# Altium schematic symbol library Master JULY2019.SchLib: 264 symbols (part 2 of 4)
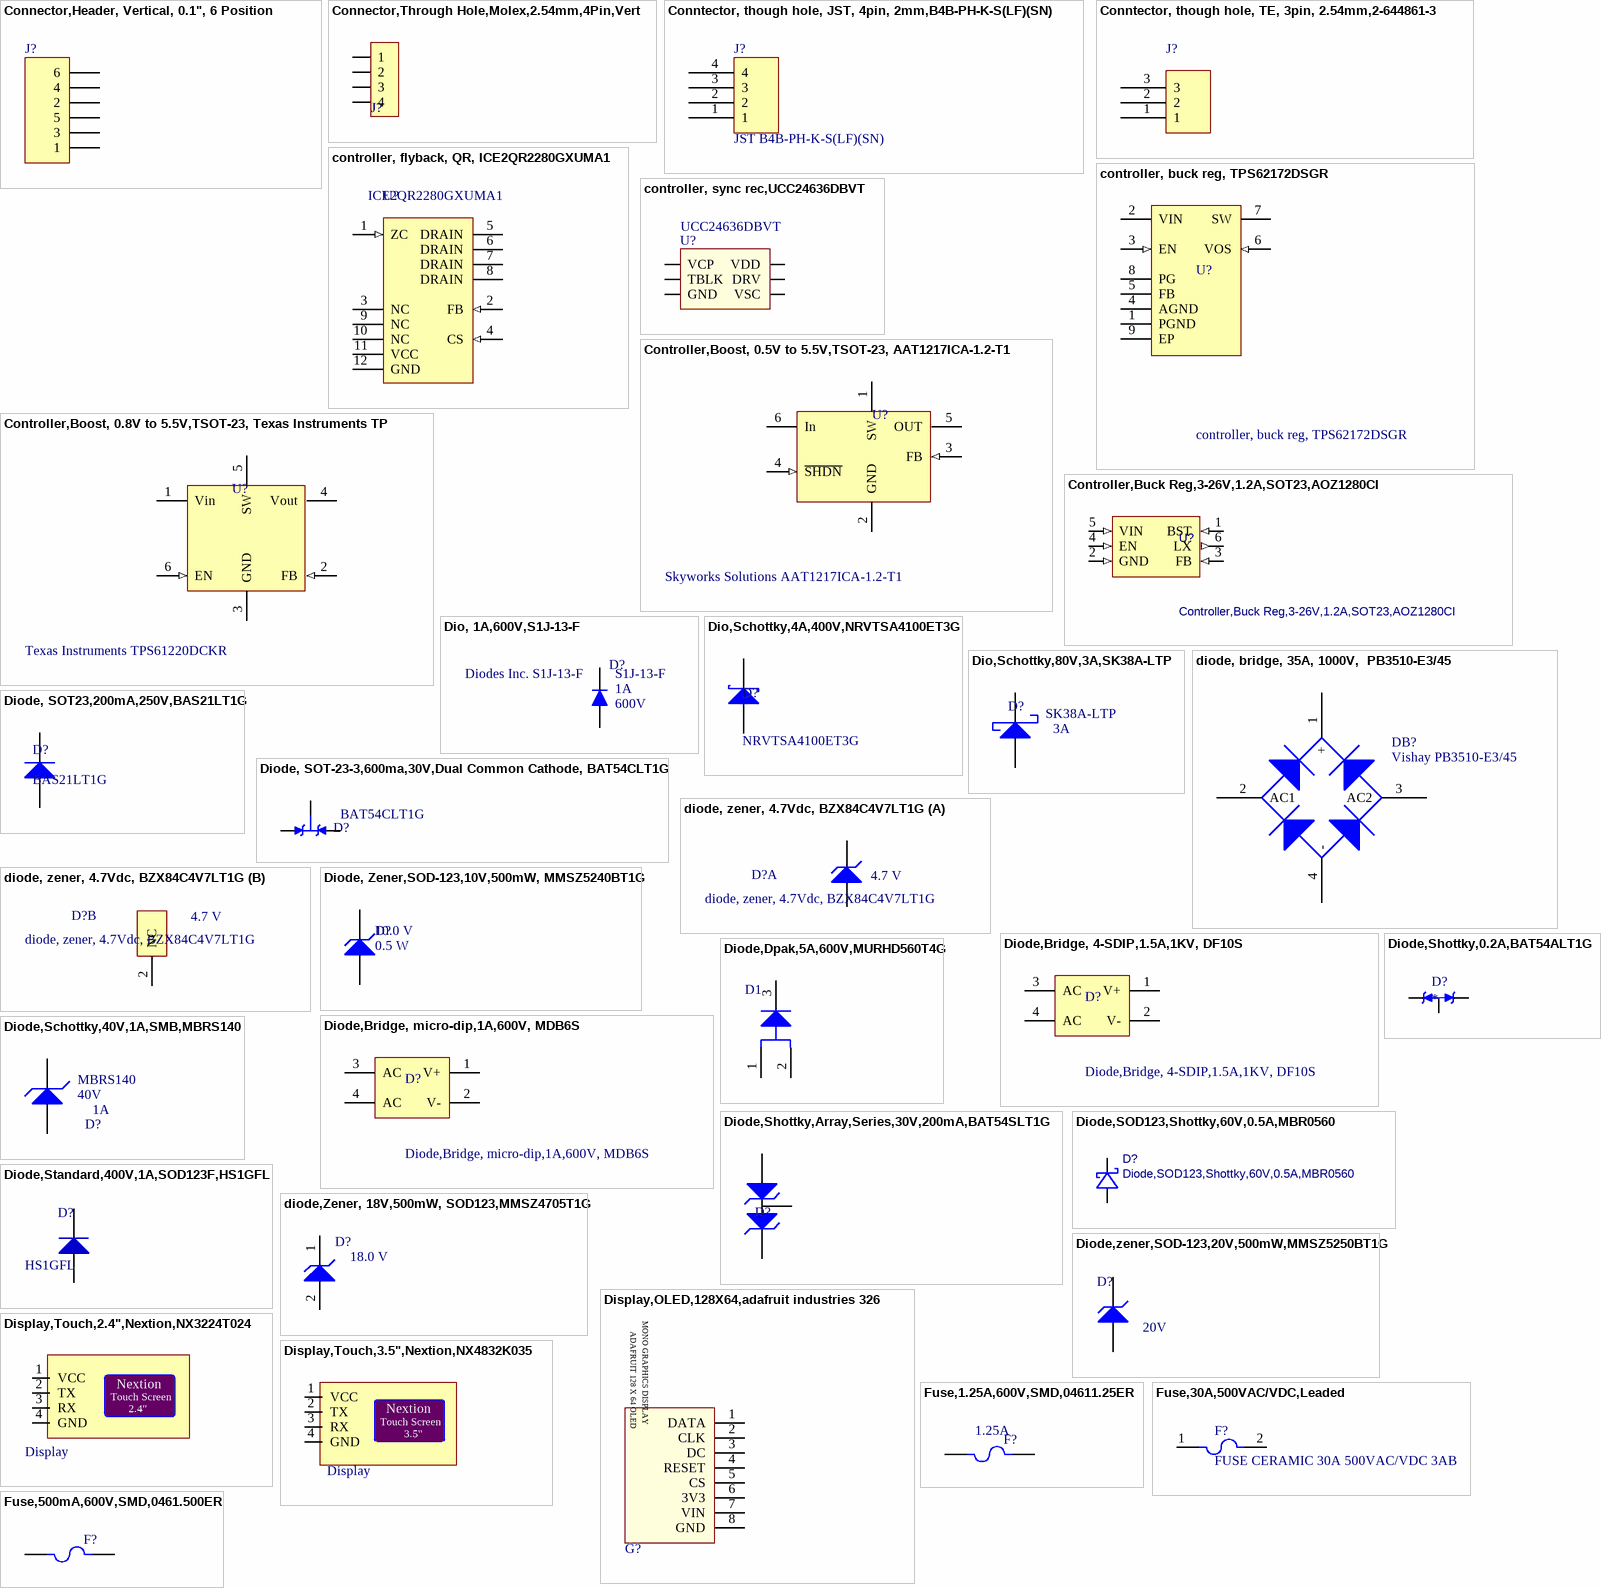
[diagram p10: symbols Connector,Header, Vertical, 0.1", 6 Position to Fuse,500mA,600V,SMD,0461.500ER]

## Dio,Schottky,4A,400V,NRVTSA4100ET3G
designator D?, comment NRVTSA4100ET3G
Trench Schottky Rectifier, Very Low Leakage, 100V, 4A; Manufacturer: ON Semiconductor; Voltage - Forward (Vf) (Max) @ If: 680mV @ 4A; Speed: Fast Recovery =< 500ns, > 200mA (Io); Current - Reverse Leakage @ Vr: 9µA @ 100V; Capacitance @ Vr, F: 55pF @ 4V, 1MHz; mfg P\N: NRVTSA4100ET3G; Diode Type: Schottky; Voltage - DC Reverse (Vr) (Max): 100V; Current - Average Rectified (Io): 4A; Mounting Type: Surface Mount; Package / Case: DO-214AC, SMA; Supplier Device Package: SMA; Operating Temperature - Junction: -55°C ~ 175°C
footprint DO-214AC, SMA (Molded, 2-Leads, Body 4.32x2.6mm)
pins: 1 K, 2 A

## Dio,Schottky,80V,3A,SK38A-LTP
designator D?, comment Current - Average Rectified (Io): 3A  (hidden comment: SK38A-LTP)
DIODE SCHOTTKY 80V 3A DO214AC; Manufacturer: Micro Commercial Co; Detailed Description: Diode Schottky 80V 3A Surface Mount DO-214AC (SMA); Diode: Type Schottky; Voltage - Forward (Vf) (Max) @ If: 850mV @ 3A; Speed: Fast Recovery =< 500ns, > 200mA (Io); Current - Reverse Leakage @ Vr: 500µA @ 80V; Part Status: Active; Voltage - DC Reverse (Vr) (Max): 80V; Mounting Type: Surface Mount; Package / Case: DO-214AC, SMA; Supplier Device Package: DO-214AC (SMA); Operating Temperature - Junction: -50°C ~ 125°; Base Part Number: SK38; mfg P/N: SK38A-LTP
footprint DO-214AC, SMA (Molded, 2-Leads, Body 4.32x2.6mm)
pins: 1 A, 2 K

## diode, bridge, 35A, 1000V,  PB3510-E3/45
designator DB?, comment Vishay PB3510-E3/45
RECTIFIER BRIDGE 1000V 35A PB; Lead-Free Status: Lead Free; voltage: 1000; Manufacturer Part Number: PB3510-E3/45; Packaging: Tube; RoHS: Compliant; Mounting Style: Through Hole; Number of Pins: 4; Supplier 1: Newark; Supplier 2: Farnell; Supplier 3: Digi-Key; current: 35A
footprint 4-ESIP, PB
footprint 4-ESIP with Heat Sink
pins: 1 +, 2 AC1, 3 AC2, 4 -

## Diode, SOT23,200mA,250V,BAS21LT1G
designator D?, comment BAS21LT1G
Diode Standard 250V 200mA (DC) Surface Mount SOT-23-3 (TO-236); Manufacturer: ON Semiconductor; Detailed Description: Diode Standard 250V 200mA Surface Mount SOT-23-3 (TO-236); Voltage - Forward (Vf) (Max) @ If: 1.25V @ 200mA; Speed: Small Signal =< 200mA (Io), Any Speed; Reverse Recovery Time (trr): 50ns; Current - Reverse Leakage @ Vr: 100nA @ 200V; Capacitance @ Vr, F: 5pF @ 0V, 1MHz; mfg P/N: BAS21LT1G; Diode Type: Standard; Voltage - DC Reverse (Vr) (Max): 250V; Current - Average Rectified (Io): 200mA (DC); Mounting Type: Surface Mount; Package / Case: TO-236-3, SC-59, SOT-23-3; Supplier Device Package: SOT-23-3 (TO-236); Operating Temperature - Junction: -55°C ~ 150°C; Base Part Number: BAS21L
footprint SOT23-3
pins: 1 A, 3 K

## Diode, SOT-23-3,600ma,30V,Dual Common Cathode, BAT54CLT1G
designator D?  Manufacturer Part Number: BAT54CLT1G  (hidden comment: Diode, SOT-23-3,600ma,30V,Dual Common Cathode, BAT54CLT1G)
BAT54CLT1G Series 30V 600 mA Dual Common Cathode Schottky Barrier Diode-SOT-23-3; Lead-Free Status: Lead Free; Current Rating: 200 mA; Voltage Rating (DC): 30.0 V; Capacitance: 10.0 pF; Lifecycle Status: Active; RoHS: Compliant; Halogen Free Status: Halogen Free; Number of Pins: 3; Mounting Style: Surface Mount; Case/Package: SOT-23; Packaging: Tape & Reel (TR), Cut Tape (CT); REACH SVHC Compliance: No SVHC
footprint SOT23-3
pins: 1 A1, 2 A2, 3 C

## diode, zener, 4.7Vdc, BZX84C4V7LT1G
designator D?  Voltage Rating (DC): 4.7 V
Zener Voltage Regulator, 225 mW, 3-Pin SOT-23, Pb-Free, Tape and Reel; Breakdown Voltage: 5.0 V; Lead-Free Status: Lead Free; Material: Plastic; Power Rating: 0.225 W; Case/Package: SOT-23; Halogen Free Status: Halogen Free; Lifecycle Status: Active; Mounting Style: Surface Mount; Number of Pins: 3; REACH SVHC Compliance: No SVHC; RoHS: Compliant
footprint SOT23-3
part A pins: 1 A, 3 K
part B pins: 2 NC

## Diode, Zener,SOD-123,10V,500mW, MMSZ5240BT1G
designator D?, comment Breakdown Voltage: 10.0 V  Power Rating: 0.5 W  (hidden comment: MMSZ5240BT1G)
Zener Voltage Regulator, 500 mW, 2-Pin SOD-123, Pb-Free, Tape and Reel; Lead-Free Status: Lead Free; Material: Plastic; Case/Package: SOD-123; Lifecycle Status: Active; Mounting Style: Surface Mount; Number of Pins: 2; REACH SVHC Compliance: No SVHC; RoHS: Compliant; Voltage Rating (DC): 10.0 V; Supplier 1: Digi-Key; Supplier Part Number 1: MMSZ5240BT1GOSCT-ND; Supplier 2: LCSC; Supplier Part Number 2: C82084
footprint SOD123 (SOD, 2-Leads, Body 2.69x1.6mm)
pins: 1 K, 2 A

## Diode,Bridge, 4-SDIP,1.5A,1KV, DF10S
designator D?
Bridge Rectifier Single Phase Standard 1kV Surface Mount 4-SDIP; Detailed Description: Detailed Description Bridge Rectifier Single Phase Standard 1kV Surface Mount 4-SDIP; Voltage - Forward (Vf) (Max) @ If: 1.1V @ 1.5A; Current - Reverse Leakage @ Vr: 5µA @ 1000V; mfg P\N: DF10S; Diode Type: Single Phase; Technology: Standard; Voltage - Peak Reverse (Max): 1kV; Current - Average Rectified (Io): 1.5A; Operating Temperature: -55°C ~ 150°C (TJ); Mounting Type: Surface Mount; Package / Case: 4-SMD, Gull Wing; Supplier Device Package: 4-SDIP
footprint 4SDIP (4-SMD, Gull Wing)
pins: 1 V+ (power), 2 V- (power), 3 AC (power), 4 AC (power)

## Diode,Bridge, micro-dip,1A,600V, MDB6S
designator D?
600 V, 1 A, Single-Phase Bridge Rectifier, -55 to 150 degC, 4-Pin 5 x 4.4 x 1.6 mm MicroDIP, RoHS, Tape and Reel; Lead-Free Status: Lead Free; Lifecycle Status: Active; Mounting Style: Surface Mount; RoHS: Compliant
footprint Micro-DIP, 4-Leads (Micro-DIP, 4-Leads, Body 5x4.4mm, Height 1.6mm)
pins: 1 V+ (power), 2 V- (power), 3 AC (power), 4 AC (power)

## Diode,Dpak,5A,600V,MURHD560T4G
designator D1  (value not drawn)
Power Rectifier, 3-Pin DPAK, Pb-Free, Tape and Reel; Lead-Free Status: Lead Free; voltage: 600Vdc; Speed: Fast Recovery =< 500ns, > 200mA (Io); Reverse Recovery Time (trr): 30nS; Case/Package: DPAK; Halogen Free Status: Halogen Free; Lifecycle Status: Active; RoHS: Compliant; Supplier 1: Newark; Supplier 2: Digi-Key; Supplier 3: Digi-Key; Supplier 4: Digi-Key; current: 5A
footprint DPAK,3-Leads (DPAK, 3-Leads, Body 6.54x6.095mm, Pitch 2.29mm)
pins: 1 A, 2 A, 3 K

## Diode,Schottky,40V,1A,SMB,MBRS140
designator D?, comment Voltage - DC Reverse (Vr) (Max): 40V  Current - Average Rectified (Io): 1A  (hidden comment: MBRS140)
DIODE SCHOTTKY 40V 1A SMB; Manufacturer: ON Semiconductor; Detailed Description: Diode Schottky 40V 1A Surface Mount SMB (DO-214AA); Categories: Discrete Semiconductor Products   Diodes - Rectifiers - Single; Voltage - Forward (Vf) (Max) @ If: 600mV @ 1A; Speed: Fast Recovery =< 500ns, > 200mA (Io); Current - Reverse Leakage @ Vr: 1mA @ 40V; Supplier 1: Digi-Key; Supplier Part Number 1: MBRS140FSTR-ND; Part Status: Active; Diode Type: Schottky; Mounting Type: Surface Mount; Package / Case: DO-214AA, SMB; Supplier Device Package: SMB (DO-214AA); Operating Temperature - Junction: -65°C ~ 125°C; Base Part Number: MBRS140; Supplier 2: LCSC; Supplier Part Number 2: C133091; mfg P/N: MBRS140
footprint DO214AA
pins: 1, 2

## Diode,Shottky,0.2A,BAT54ALT1G
designator D?
DIODE ARRAY SCHOTTKY 30V SOT23-3; Manufacturer 1: ON Semiconductor; Manufacturer Part Number 1: BAT54ALT1G; Element Configuration: Common Anode; Max Forward Surge Current (Ifsm): 600mA; Forward Voltage: 800mV; Reverse Recovery Time: 5ns; Forward Current: 200mA; Current Rating: 10A; Peak Reverse Current: 2uA; Capacitance: 10pF; Power Dissipation: 225mW; Supplier 1: Digi-Key; Stock 1: 238457; Pricing 1: 1=0.16000, 10=0.14500, 100=0.07880, 500=0.04848, 1000=0.03306 (USD); RoHS: Yes; Case/Package: SOT-23-3; Number of Pins: 3; Contact Plating: Tin; Min Operating Temperature: -55°C; Max Operating Temperature: 150°C; Packaging: Tape and Reel; Package Quantity: 3000; Max Repetitive Reverse Voltage (Vrrm): 30V; Average Rectified Current: 200mA; Max Reverse Voltage (DC): 30V; Peak Non-Repetitive Surge Current: 600mA; Voltage Rating (DC): 30V; Max Surge Current: 600mA; Recovery Time: 5ns; Max Reverse Leakage Current: 2uA; Termination: SMD/SMT; Max Power Dissipation: 225mW; Length: 0.119inch; Height: 0.04inch; Width: 0.055inch; Radiation Hardening: No; Lead Free: Lead Free; REACH SVHC: No SVHC; Halogen Free: Halogen Free; ComponentLink1URL: https://datasheet.ciiva.com/4715/bat54alt1-d-104508-4715041.pdf?src-supplier=Mouser; ComponentLink1Description: https://datasheet.ciiva.com/4715/bat54alt1-d-104508-4715041.pdf?src-supplier=Mouser; ComponentLink2URL: https://datasheet.ciiva.com/1180/bat54alt1-d-1180242.pdf?src-supplier=Element14; ComponentLink2Description: https://datasheet.ciiva.com/1180/bat54alt1-d-1180242.pdf?src-supplier=Element14; ComponentLink3URL: https://datasheet.ciiva.com/1180/1911586-1180243.pdf?src-supplier=Element14; ComponentLink3Description: https://datasheet.ciiva.com/1180/1911586-1180243.pdf?src-supplier=Element14; ComponentLink4URL: https://datasheet.ciiva.com/14560/70100362-14560727.pdf?src-supplier=Allied+Electronics; ComponentLink4Description: https://datasheet.ciiva.com/14560/70100362-14560727.pdf?src-supplier=Allied+Electronics; ComponentLink5URL: https://datasheet.ciiva.com/8299/bat54alt1-d-8299643.pdf?src-supplier=Avnet; ComponentLink5Description: https://datasheet.ciiva.com/8299/bat54alt1-d-8299643.pdf?src-supplier=Avnet; ComponentLink6URL: https://datasheet.ciiva.com/905/bat54alt1-d-905836.pdf?src-supplier=Digi-Key; ComponentLink6Description: https://datasheet.ciiva.com/905/bat54alt1-d-905836.pdf?src-supplier=Digi-Key; ComponentLink7URL: https://datasheet.ciiva.com/905/bat54alt1-d-905837.pdf?src-supplier=Digi-Key; ComponentLink7Description: https://datasheet.ciiva.com/905/bat54alt1-d-905837.pdf?src-supplier=Digi-Key; ComponentLink8URL: https://datasheet.ciiva.com/905/bat54alt1-d-905838.pdf?src-supplier=Digi-Key; ComponentLink8Description: https://datasheet.ciiva.com/905/bat54alt1-d-905838.pdf?src-supplier=Digi-Key; ComponentLink9URL: https://datasheet.ciiva.com/16387/bat54alt1-d-16387375.pdf?src-supplier=Future+Electronics; ComponentLink9Description: https://datasheet.ciiva.com/16387/bat54alt1-d-16387375.pdf?src-supplier=Future+Electronics; ComponentLink10URL: https://datasheet.ciiva.com/25950/bat54alt1-d-25950143.pdf?src-supplier=Avnet+Europe; ComponentLink10Description: https://datasheet.ciiva.com/25950/bat54alt1-d-25950143.pdf?src-supplier=Avnet+Europe; Supplier Part Number 1: BAT54ALT1GOSCT-ND
footprint SOT23-3
pins: 1 C1, 2 C2, 3 A

## Diode,Shottky,Array,Series,30V,200mA,BAT54SLT1G
designator D?, comment Diode  (value not drawn)
Diode Array 1 Pair Series Connection Schottky 30V 200mA (DC) Surface Mount TO-236-3, SC-59, SOT-23-3; Manufacturer: ON Semiconductor; mfg P/N: BAT54SLT1G; Voltage - Forward (Vf) (Max) @ If: 800mV @ 100mA; Speed: Small Signal =< 200mA (Io), Any Speed; Reverse Recovery Time (trr): 5ns; Current - Reverse Leakage @ Vr: 2µA @ 25V; Detailed Description: Diode Array 1 Pair Series Connection Schottky 30V 200mA (DC) Surface Mount TO-236-3, SC-59, SOT-23-3; Diode Type: Schottky; Diode Configuration: 1 Pair Series Connection; Voltage - DC Reverse (Vr) (Max): 30V; Current - Average Rectified (Io) (per Diode): 200mA (DC); Operating Temperature - Junction: 125°C (Max); Mounting Type: Surface Mount; Package / Case: TO-236-3, SC-59, SOT-23-3; Supplier Device Package: SOT-23-3 (TO-236); Base Part Number: BAT54SL
footprint SOT23-3
pins: 1 A, 2 K, 3 AK

## Diode,SOD123,Shottky,60V,0.5A,MBR0560
designator D?
Dio,Sig,Schtky,0.5A,60V,SOD123; Manufacturer: MCC; mfg P/N: MBR0560-TP; Details: 700mV @ 500mA, 200µA @ 60V,30pF @ 4V, 1MHz; Not Stuffed: N/S; Fast Supplier: Digi-Key; Current: 0.5A; Package: SOD123; Voltage: 60V
footprint SOD123 (SOD, 2-Leads, Body 2.69x1.6mm)
pins: 1 C, 2 A

## Diode,Standard,400V,1A,SOD123F,HS1GFL
designator D?, comment HS1GFL
50NS 1A 400V HIGH EFFICIENT RECO; Lead-Free Status: Lead Free; Detailed Description: Diode Standard 400V 1A (DC) Surface Mount SOD-123FL; Current - Reverse Leakage @ Vr: 5µA @ 400V; Voltage - Forward (Vf) (Max) @ If: 1.3V @ 1A; Case/Package: SOD-123FL; Lifecycle Status: Active; Mounting Type: Surface Mount; Number of Pins: 2; REACH SVHC Compliance: No SVHC; RoHS: Compliant; mfg P/N: HS1GFL; Operating Temperature: -55°C ~ 150°C; Package / Case: SOD-123FL; Voltage - DC Reverse (Vr) (Max): 400V; Current - Average Rectified (Io): 1A
footprint SOD123FL (SOD, 2-Leads, Body 2.69x1.6mm)
pins: 1 K, 2 A

## diode,Zener, 18V,500mW, SOD123,MMSZ4705T1G
designator D?, comment Voltage Rating (DC): 18.0 V  (hidden comment: MMSZ4705T1G)
Zener Diode 18V 500mW ±5% Surface Mount SOD-123; Manufacturer: ON Semiconductor; Lead-Free Status: Lead Free; Material: Plastic; Power Rating: 0.5 W; Current - Reverse Leakage @ Vr: 50nA @ 13.6V; Voltage - Forward (Vf) (Max) @ If: 900mV @ 10mA; Case/Package: SOD-123; Lifecycle Status: Active; Mounting Style: Surface Mount; Number of Pins: 2; REACH SVHC Compliance: No SVHC; RoHS: Compliant; Operating Temperature: -55°C ~ 150°C; mfg P/N: MMSZ4705T1G
footprint SOD123 (SOD, 2-Leads, Body 2.69x1.6mm)
pins: 1 K, 2 A

## Diode,zener,SOD-123,20V,500mW,MMSZ5250BT1G
designator D?, comment Voltage - Zener (Nom) (Vz): 20V  (hidden comment: MMSZ5250BT1G)
DIODE ZENER 20V 500MW SOD123; Lead-Free Status: Lead Free; Material: Plastic; Detailed Description: Zener Diode 20V 500mW ±5% Surface Mount SOD-123; Tolerance: ±5%; Impedance (Max) (Zzt): 25 Ohms; Current - Reverse Leakage @ Vr: 100nA @ 15V; Voltage - Forward (Vf) (Max) @ If: 900mV @ 10mA; Power Rating: 0.5 W; Case/Package: SOD-123; Lifecycle Status: Active; Mounting Style: Surface Mount; Number of Pins: 2; REACH SVHC Compliance: No SVHC; RoHS: Compliant; mfg P/N: MMSZ5250BT1G; Operating Temperature: -55°C ~ 150°C; Package / Case: SOD-123; Mounting Type: Surface Mount; Supplier 1: LCSC; Supplier Part Number 1: C94386; Supplier 2: Digi-Key; Supplier Part Number 2: MMSZ5250BT1GOSCT-ND
footprint SOD123 (SOD, 2-Leads, Body 2.69x1.6mm)
pins: 1 K, 2 A

## Display,OLED,128X64,adafruit industries 326
designator G?, comment 326  (value not drawn)
128 x 64 OLED Mono Graphic Display; mfg P/N: adafruit industries 326; Display Type: OLED - Passive Matrix; Diagonal Screen Size: 0.96" (24.38mm); Viewing Area: 23.74mm W x 12.86mm H; Backlight: Without Backlight; Dot Pixels: 128 x 64; Interface: I²C, SPI; Graphics Color: White; Background Color: Black; Dot Size: 0.15mm W x 0.15mm H; Dot Pitch: 0.17mm W x 0.17mm H; RoHS: Compliant
footprint Display, 128 x 64 OLED Mono Graphic Display
pins: 1 DATA, 2 CLK, 3 DC, 4 RESET, 5 CS, 6 3V3, 7 VIN, 8 GND
text: MONO GRAPHICS DISPLAY; ADAFRUIT 128 X 64 OLED

## Display,Touch,2.4",Nextion,NX3224T024
designator Display, comment NX3224T024  (value not drawn)
Nextion NX3224T024 - Generic 2.4" TFT Intelligent LCD Touch Display; p/n: NX4832K035; Touch type:: Resistive; Backlight:: LED; Backlight lifetime (Average):: >30,000 Hours; Recommended power supply:: 5V 500mA DC; Visual Area:: 73.44mm(L)×48.96mm(W); Display Resolution: 320 * 240; Display Interface: Serial; Board Size: 74.4*42.9mm; Weight: 62 g
footprint Display,2.4",Nextion
pins: 1 VCC, 2 TX, 3 RX, 4 GND
text: Nextion; Touch Screen; 2.4"

## Display,Touch,3.5",Nextion,NX4832K035
designator Display, comment NX4832K035  (value not drawn)
Nextion Enhanced NX4832K035 3.5 Inch HMI Intelligent Smart USART UART Serial Touch TFT LCD Module Display Panel For Raspberry Pi Arduino Kits; Touch type:: Resistive; Backlight:: LED; Backlight lifetime (Average):: >30,000 Hours; Net Weight:: 48.2 g; Recommended power supply:: 5V 500mA DC; Visual Area:: 73.44mm(L)×48.96mm(W); Display Resolution: 480 * 320; Board Size: 100.5mm*54.94mm; p/n: NX4832K035; Display Interface: Serial; Weight: 85 g
footprint Display,3.5",Nextion
pins: 1 VCC, 2 TX, 3 RX, 4 GND
text: Nextion; Touch Screen; 3.5"

## Fuse,1.25A,600V,SMD,04611.25ER
designator F?, comment Current Rating: 1.25A  (hidden comment: 04611.25ER)
FUSE BRD MNT 1.25A 600VAC/80VDC; Voltage Rating (DC): 80V; Voltage Rating (AC): 600Vac; Lead-Free Status: Lead Free; Response Time: Slow; Approvals: CSA, UR; Breaking Capacity @ Rated Voltage: 60A AC, 100A DC; Melting: I²t 16.5; DC Cold Resistance: 0.11 Ohms; Manufacturer Part Number: 04611.25ER; Mounting Style: Surface Mount; Applications: Telecom; Operating Temperature: -55°C ~ 125°C; Size / Dimension: 0.398" L x 0.123" W x 0.123" H (10.10mm x 3.12mm x 3.12mm)
footprint Fuse,600VAC,1.25A,04611.25ER (0.398" L x 0.123" W x 0.123" H (10.10mm x 3.12mm x 3.12mm))
pins: 1, 2

## Fuse,30A,500VAC/VDC,Leaded
designator F?, comment FUSE CERAMIC 30A 500VAC/VDC 3AB
Manufacturer: Littelfuse Inc.; mfg P/N: 0505030.MXEP; Fuse Type: Cartridge, Ceramic; Voltage Rating - AC: 500V; Response Time: Fast; Breaking Capacity @ Rated Voltage: 30kA AC, 20kA DC; Melting I²t: 280; Approvals: CE, cULus; DC Cold Resistance: 0.0038 Ohms; Current Rating: 30A; Voltage Rating - DC: 500V; Package / Case: 3AB, 3AG, 1/4" x 1-1/4" (Axial); Mounting Type: Through Hole; Operating Temperature: -55°C ~ 125°C; Size / Dimension: 0.275" Dia x 1.288" L (6.99mm x 32.72mm)
footprint Fuse,TH,Vertical,0505030.MXEP (0.275" Dia x 1.288" L (6.99mm x 32.72mm))
pins: 1, 2

## Fuse,500mA,600V,SMD,0461.500ER
designator F?, comment Littelfuse 0461.500ER  (value not drawn)
Fuse Chip Slow Blow Acting 0.5A 600V SMD Solder Pad 10.1 X 3.12 X 3.12mm Ceramic T/R; Voltage Rating (DC): 250.0 V; Voltage Rating (AC): 600Vac; Lead-Free Status: Lead Free; RoHS: Compliant; Manufacturer Part Number: 0461.500ER; Size-Width: 0.00312 m; Mounting Style: Surface Mount; Packaging: Cut Tape (CT); Size-Height: 0.00312 m; REACH SVHC Compliance: No SVHC; Size-Length: 0.0100838 m
footprint Fuse chip, SMD,9.4mm (SMD Solder Pad 10.1 X 3.12 X 3.12mm)
pins: 1, 2

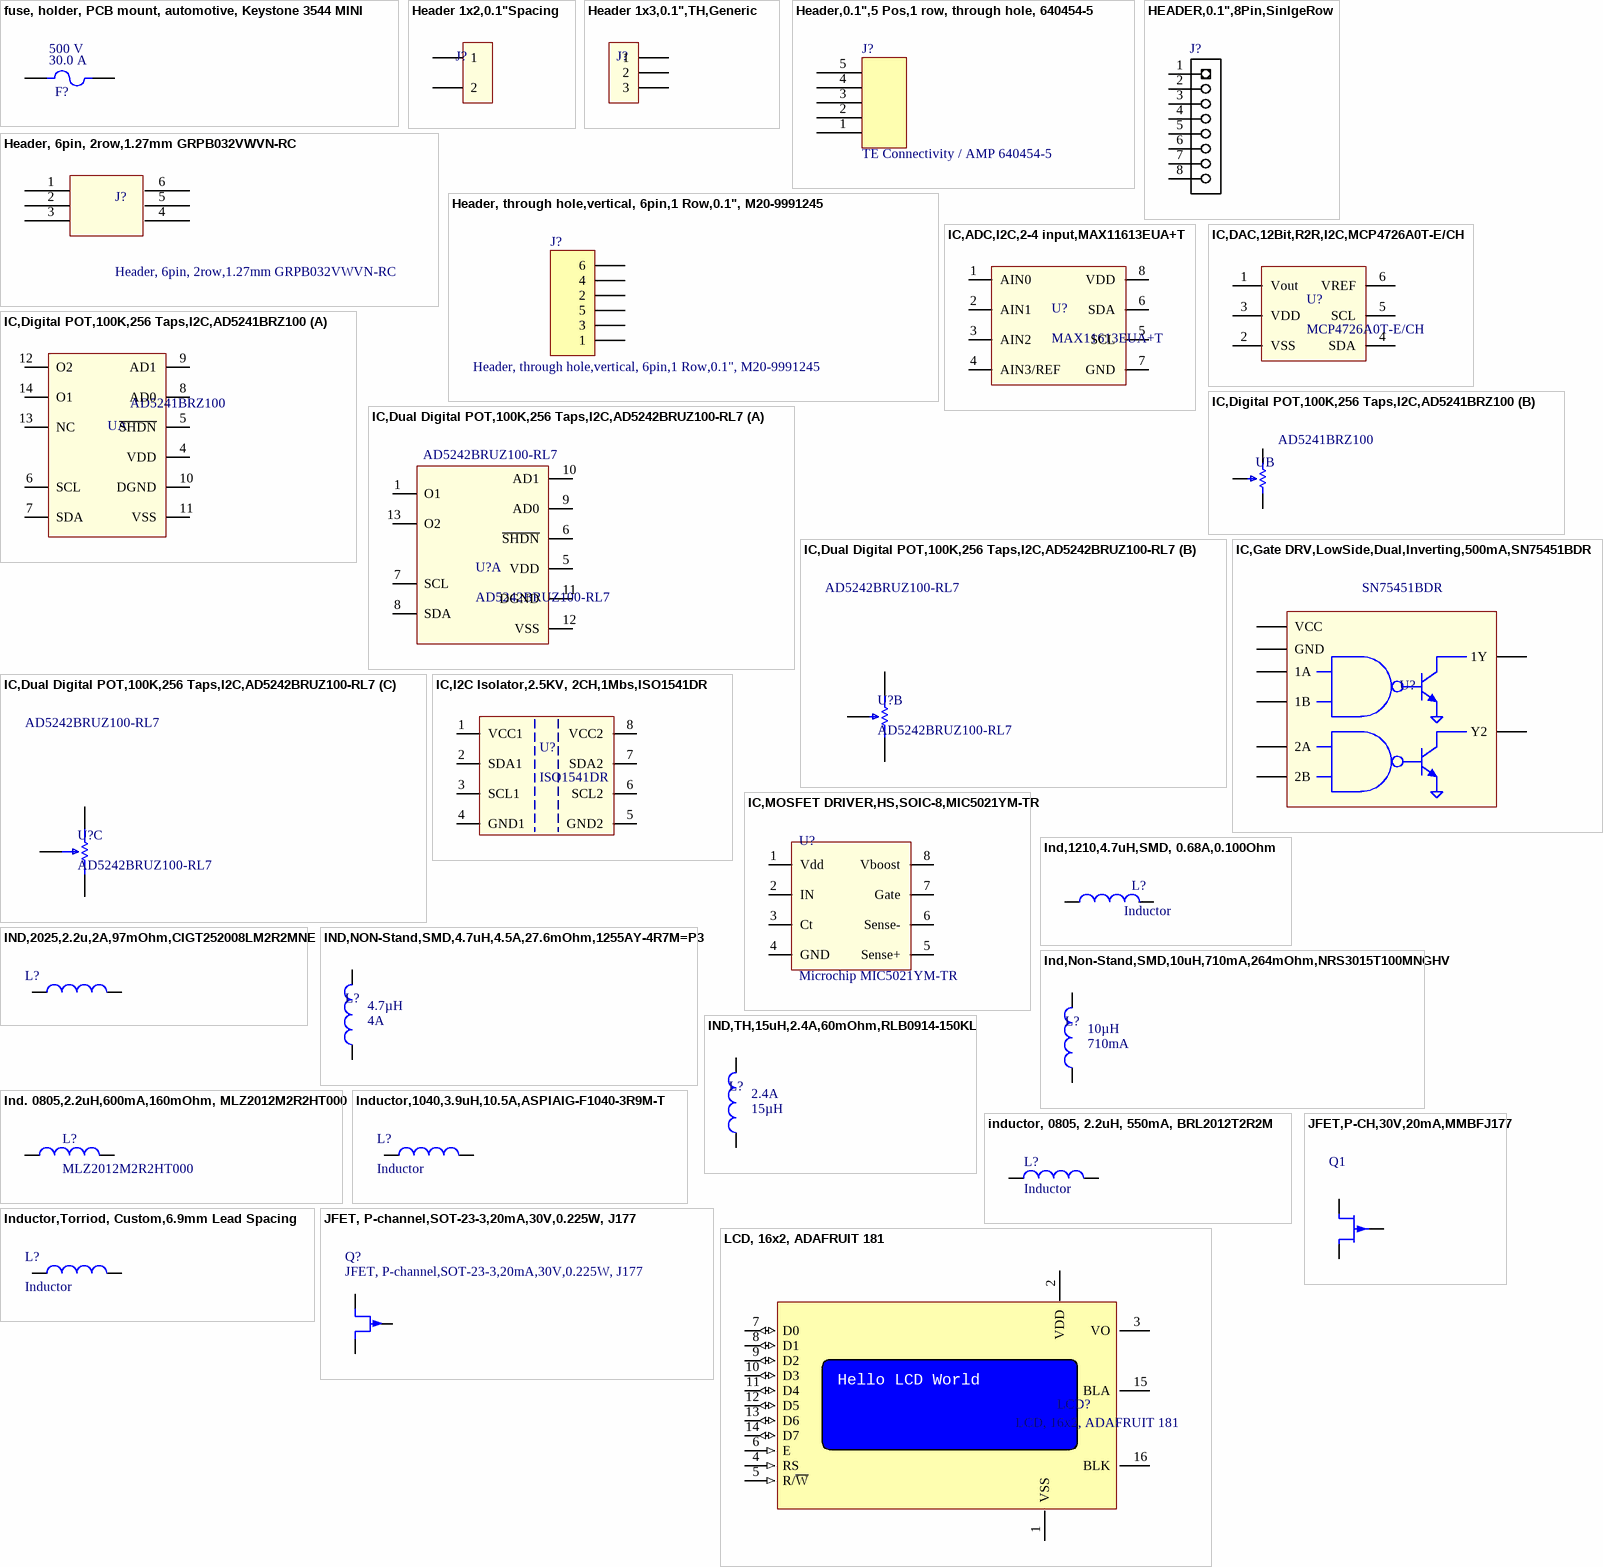
[diagram p3: symbols fuse, holder, PCB mount, automotive, Keystone 3544 MINI to LCD, 16x2, ADAFRUIT 181]

## fuse, holder, PCB mount, automotive, Keystone 3544 MINI
designator F?  Current Rating: 30.0 A  Voltage Rating (AC): 500 V  (hidden comment: fuse, holder, PCB mount, automotive, Keystone 3544 MINI)
Fuse Clip; 500 VAC; 30 A; PCB; For 0.110 in. x 0.032 in. mini blade fuses; Number of Circuits: 1; Color: Black; RoHS: Compliant; Supplier 1: Newark; Supplier 2: Digi-Key; Supplier 3: Farnell
footprint Fuse,TH,Vertical,0505030.MXEP (0.275" Dia x 1.288" L (6.99mm x 32.72mm))
pins: 1, 2

## Header 1x2,0.1"Spacing
designator J?, comment Generic Header  (value not drawn)
footprint HEADER-1X2,0.1" (2 pos 1 row 0.1" spacing Header)
footprint HEADER-1X2,0.1",RA1 (2 pos 1 row 0.1" spacing right angle Header)
pins: 1, 2

## Header 1x3,0.1",TH,Generic
designator J?, comment Generic Header  (value not drawn)
Generic Header 3 pos header 0.1"
footprint Header,3POS,0.1",RA
pins: 1, 2, 3

## Header,0.1",5 Pos,1 row, through hole, 640454-5
designator J?, comment TE Connectivity / AMP 640454-5
MTA-100 5 Position 2.54 mm Single Row Through-Hole Straight Wire to Board Header; Pin Pitch: 2.54 mm; Mounting Angle: 180 °; ELV Compliant: Compliant; Current Rating: 4.00 A; Gender: Male; Number of Contacts: 5; Lead-Free Status: Lead Free; Shrouded: No; Voltage Rating (AC): 250 V; Contact Plating: Tin; Packaging: Bag; Orientation: Vertical; Mounting Style: Through Hole, Vertical; Contact Material: Copper Alloy; Size-Height: 7.87 mm; Housing Color: Natural; Size-Length: 12.7 mm; Number of Positions: 5; Flammability Rating: UL 94 V-0; Manufacturer Part Number: 640454-5; Lifecycle Status: Active; Number of Rows: 1; Size-Width: 5.71 mm; RoHS: Compliant; Housing Material: Polyester; REACH SVHC Compliance: No SVHC; Supplier 1: Newark; Supplier 2: Farnell; Supplier 3: Newark; Supplier 4: Farnell; Supplier 5: Allied; Supplier 6: Digi-Key; Supplier 7: Newark; Supplier 8: Newark; Supplier 9: Future Electronics; Supplier 10: Farnell; Supplier 11: Digi-Key; Supplier 12: Allied; Supplier 13: Newark; Supplier 14: Newark
footprint Header, Molex, 5pin, 0.1"
pins: 1, 2, 3, 4, 5

## HEADER,0.1",8Pin,SinlgeRow
designator J?  (value not drawn)
Supplier 1: Digi-Key; Supplier Part Number 1: S1011E-36-ND
footprint Header,8Pin,SingleRow, RA,0.1" (8 pin single row right angle header with 0.1" spaceing)
footprint HEADER-1X8
pins: 1, 2, 3, 4, 5, 6, 7, 8

## Header, 6pin, 2row,1.27mm GRPB032VWVN-RC
designator J?
6 Pin Dual Row (2x3) 1.27 mm Pitch Straight Male Pin Header; RoHS: Compliant
footprint Header,6pin, 2 row, 0.05" spaceing (CONN HEADER .050" 6POS DL PCB AU)
pins: 1, 2, 3, 4, 5, 6

## Header, through hole,vertical, 6pin,1 Row,0.1", M20-9991245
designator J?
2.54mm (0.1") Pitch SIL Vertical PC Tail Pin Header, 6.1mm mating pin height, gold (hi-temp mould), 6 contacts; Manufacturer Part Number: M20-9990645; Number of Contacts: 6; Gender: Male; Number of Mating Cycles: 300; Insulation Resistance: 10.0 GΩ; Voltage Rating (AC): 750 V; Contact Resistance: 15.0 mΩ; Current Rating: 3.00 A; REACH SVHC Compliance: No SVHC; Insulation Material: Polyester; Contact Material: Phosphor Bronze; RoHS: Compliant; Mounting Style: Through Hole, Vertical; Pin Pitch: 2.54 mm; Supplier 1: Digi-Key
footprint Header, 6 pin, 0.1" Spaceing
pins: 1, 2, 3, 4, 5, 6

## IC,ADC,I2C,2-4 input,MAX11613EUA+T
designator U?, comment MAX11613EUA+T
12 Bit Analog to Digital Converter 2, 4 Input 1 SAR 8-uMAX; Voltage - Supply, Analog: 2.7 V ~ 3.6 V; Number of Channels: 2; Number of Inputs: 2, 4; Voltage - Isolation: 2500Vrms; Common Mode Transient Immunity (Min): 25kV/µs; Sampling Rate (Per Second): 94.4k; Voltage - Supply: 3 V ~ 5.5 V; Input Type: Differential, Single Ended; Number of Bits: 12; Configuration: MUX-S/H-ADC; Ratio - S/H:ADC: 1:1; Number of A/D Converters: 1; Reference Type: External, Internal; Operating Temperature: -40°C ~ 85°C; Mounting Type: Surface Mount; Package / Case: 8-TSSOP, 8-MSOP (0.118", 3.00mm Width); Supplier Device Package: 8-uMAX; Architecture: SAR; Voltage - Supply, Digital: 2.7 V ~ 3.6 V; mfg P\N: MAX11613EUA+T; Supplier 1: Digi-Key; Supplier Part Number 1: MAX11613EUA+-ND
footprint MSOP8 (SOP, 8-Leads, Body 3x3mm, Pitch 0.65mm, IPC Medium Density)
pins: 1 AIN0, 2 AIN1, 3 AIN2, 4 AIN3/REF, 5 SCL, 6 SDA, 7 GND, 8 VDD

## IC,DAC,12Bit,R2R,I2C,MCP4726A0T-E/CH
designator U?, comment MCP4726A0T-E/CH
12 Bit Digital to Analog Converter 1 SOT-23-6; Manufacturer: Microchip Technology; Number of Bits: 12; Number of D/A Converters: 1; Settling Time: 6µs (Typ); Output Type: Voltage - Buffered; Differential Output: No; Data Interface: I²C; Reference Type: External, Supply; Voltage - Supply, Analog: 2.7 V ~ 5.5 V; INL/DNL (LSB): ±2, ±0.2; Architecture: R-2R; mfg P/N: MCP4726A0T-E/CH; Detailed Description: 12 Bit Digital to Analog Converter 1 SOT-23-6; Voltage - Supply, Digital: 2.7 V ~ 5.5 V; Operating Temperature: -40°C ~ 125°C; Package / Case: SOT-23-6; Supplier Device Package: v SOT-23-6; Mounting Type: Surface Mount; Base Part Number: MCP4726A0
footprint SOT23-6 (SOT23, 6-Leads, Body 3.0x1.7mm, Pitch 0.95mm, Lead Span 2.9mm, IPC High Density)
pins: 1 Vout, 2 VSS, 3 VDD, 4 SDA, 5 SCL, 6 VREF

## IC,Digital POT,100K,256 Taps,I2C,AD5241BRZ100
designator U, comment AD5241BRZ100
Digital Potentiometer 100k Ohm 1 Circuit 256 Taps I²C Interface 14-SOIC; Manufacturer: Analog Devices Inc.; Number of Circuits: 1; Number of Taps: 256; Memory Type: Volatile; Voltage - Supply: 2.7 V ~ 5.5 V, ±2.3 V ~ 2.7 V; Tolerance: -30%, +50%; Temperature Coefficient (Typ): 30 ppm/°C; Resistance - Wiper (Ohms) (Typ): 60; Detailed Description: Digital Potentiometer 100k Ohm 1 Circuit 256 Taps I²C Interface 14-SOIC; Configuration: Potentiometer; Resistance (Ohms): 100k; Interface: I²C; Features: Selectable Address; Operating Temperature: -40°C ~ 105°C; Package / Case: 14-SOIC (0.154", 3.90mm Width); Supplier Device Package: 14-SOIC; Base Part Number: AD5241; Supplier 1: Digi-Key; Supplier Part Number 1: AD5241BRZ100-ND; mfg P\N: AD5241BRZ100
footprint SOIC-14 (SOIC, 14-Leads, Body 8.75x4mm, Pitch 1.27mm)
part A pins: 4 VDD, 5 ~{SHDN}, 6 SCL, 7 SDA, 8 AD0, 9 AD1, 10 DGND, 11 VSS, 12 O2, 13 NC, 14 O1
part B pins: 1 A1, 2 W1, 3 B1

## IC,Dual Digital POT,100K,256 Taps,I2C,AD5242BRUZ100-RL7
designator U?, comment AD5242BRUZ100-RL7
Digital Potentiometer 100k Ohm 2 Circuit 256 Taps I²C Interface 16-TSSOP; Manufacturer: Analog Devices Inc.; Detailed Description: Digital Potentiometer 100k Ohm 1 Circuit 256 Taps I²C Interface 14-SOIC; Number of Circuits: 2; Number of Taps: 256; Memory Type: Volatile; Voltage - Supply: 2.7 V ~ 5.5 V, ±2.3 V ~ 2.7 V; Tolerance: -30%, +50%; Temperature Coefficient (Typ): 30 ppm/°C; Resistance - Wiper (Ohms) (Typ): 60; Configuration: Potentiometer; Resistance (Ohms): 100k; Interface: I²C; Features: Selectable Address; Operating Temperature: -40°C ~ 105°C; Package / Case: 16-TSSOP (0.173", 4.40mm Width); Supplier Device Package: 16-TSSOP; Base Part Number: AD5241; Supplier 1: Digi-Key; Supplier Part Number 1: AD5242BRUZ100-RL7CT-ND; mfg P\N: AD5242BRUZ100-RL7
footprint TSSOP-16 (TSOP, 16-Leads, Body 5x4.4mm, Pitch 0.65mm, IPC High Density)
part A pins: 1 O1, 5 VDD, 6 ~{SHDN}, 7 SCL, 8 SDA, 9 AD0, 10 AD1, 11 DGND, 12 VSS, 13 O2
part B pins: 14 B2, 15 W2, 16 A2
part C pins: 2 A1, 3 W1, 4 B1

## IC,Gate DRV,LowSide,Dual,Inverting,500mA,SN75451BDR
designator U?, comment SN75451BDR
IC DUAL PERIPHERAL DRVR 8-SOIC; Manufacturer: Texas Instruments; Detailed Description: Low-Side Gate Driver IC Inverting 8-SOIC; Categories: Integrated Circuits (ICs)   PMIC - Gate Drivers; Driven Configuration: Low-Side; Channel Type: Independent; Number of Drivers: 2; Gate Type: N-Channel, P-Channel MOSFET; Voltage - Supply: 4.75V ~ 5.25V; Logic Voltage - VIL, VIH: 0.8V, 2V; Current - Peak Output (Source, Sink): 500mA, 500mA; Input Type: Inverting; Rise / Fall Time (Typ): 5ns, 7ns; Part Status: Active; Operating Temperature: 0°C ~ 70°C (TA); Mounting Type: Surface Mount; Package / Case: 8-SOIC (0.154", 3.90mm Width); Supplier Device: Package 8-SOIC; Base Part Number: SN75451; Supplier 1: LCSC; Supplier Part Number 1: C7068; Supplier 2: Digi-Key; Supplier Part Number 2: 296-14960-1-ND; mfg P/N: SN75451BDR
footprint SOIC-8 (SOIC, 8-Leads, Body 4.9x3.9mm, Pitch 1.27mm, IPC Medium Density)
pins: 1 1A, 2 1B, 3 1Y, 4 GND, 5 Y2, 6 2A, 7 2B, 8 VCC

## IC,I2C Isolator,2.5KV, 2CH,1Mbs,ISO1541DR
designator U?, comment ISO1541DR
I²C Digital Isolator 2500Vrms 2 Channel 1Mbps 25kV/µs CMTI 8-SOIC (0.154", 3.90mm Width); Isolated Power: No; Number of Channels: 2; Inputs - Side 1/Side 2: 2/1; Channel Type: Bidirectional, Unidirectional; Pulse Width Distortion (Max): 80ns, 21ns; Voltage - Supply: 3 V ~ 5.5 V; Technology: Capacitive Coupling; Type: I²C; Voltage - Isolation: 2500Vrms; Common Mode Transient Immunity (Min): 25kV/µs; Data Rate: 1Mbps; Operating Temperature: -40°C ~ 125°C; Mounting Type: Surface Mount; Package / Case: 8-SOIC (0.154", 3.90mm Width); Supplier Device Package: 8-SOIC; Supplier 1: Digi-Key; Supplier Part Number 1: 296-34872-1-ND; Supplier 2: LCSC; Supplier Part Number 2: C143028
footprint SOIC-8 (SOIC, 8-Leads, Body 4.9x3.9mm, Pitch 1.27mm, IPC Medium Density)
pins: 1 VCC1, 2 SDA1, 3 SCL1, 4 GND1, 5 GND2, 6 SCL2, 7 SDA2, 8 VCC2

## IC,MOSFET DRIVER,HS,SOIC-8,MIC5021YM-TR
designator U?, comment Microchip MIC5021YM-TR
MIC5021 Series 36 V High-Speed High-Side MOSFET Driver - SOIC-8; Frequency: 150 kHz (max); Lead-Free Status: Lead Free; Number of Outputs: 1; Rise Time: 500 ns (max); Supply Voltage (DC): 36.0 V (max); Manufacturer Part Number: MIC5021YM-TR; Case/Package: SOIC; Lifecycle Status: Not Listed by Manufacturer; Mounting Style: Surface Mount; Operating Temperature: 85.0 °C (max); Packaging: Tape & Reel (TR), Cut Tape (CT); Number of Pins: 8; RoHS: Compliant; Supplier 1: Digi-Key; Supplier Part Number 1: 576-1239-1-ND
footprint SOIC-8 (SOIC, 8-Leads, Body 4.9x3.9mm, Pitch 1.27mm, IPC Medium Density)
pins: 1 Vdd, 2 IN, 3 Ct, 4 GND, 5 Sense+, 6 Sense-, 7 Gate, 8 Vboost

## Ind,1210,4.7uH,SMD, 0.68A,0.100Ohm
designator L?, comment Inductor
Idctr,SMD,4.7uH,680mA,20%,1210; Manufacturer: Taiyo Yuden; Manufacturer P/N: LB C3225T4R7MR; P/N: 2450008; Current: 0.680A; Details: Unshielded; Resistance: 130 mOhm Max; Create Date: 2011-12-22; Inductance: 4.7uH; Type: SMD; Tolerance: ±20%; Fast Supplier: Digi-Key; Fast Supplier P/N: 587-2431-1-ND
footprint Ind,1210 (generic 1210 inductor foot print)
pins: 1, 2

## IND,2025,2.2u,2A,97mOhm,CIGT252008LM2R2MNE
designator L?, comment Inductor  (value not drawn)
FIXED IND 2.2UH 2A 97MOHM SMD; Manufacturer: Samsung Electro-Mechanics; mfg P\N: CIGT252008LM2R2MNE; Type: Thin Film; Material - Core: Metal Composite; Inductance: 2.2µH; Tolerance: ±20%; Current - Saturation: 2.1A; Shielding: Unshielded; DC Resistance (DCR): 97mOhm Max; Inductance Frequency - Test: 1MHz; Current Rating (Amps): 2A; Operating Temperature: -40°C ~ 125°C; Mounting Type: Surface Mount; Package / Case: 1008 (2520 Metric)
footprint IND,2520
pins: 1, 2

## IND,NON-Stand,SMD,4.7uH,4.5A,27.6mOhm,1255AY-4R7M=P3
designator L?, comment Inductance: 4.7µH  Current Rating (Amps): 4A  (hidden comment: 1255AY-4R7M=P3)
FIXED IND 4.7UH 4.5A 27.6 MOHM; Manufacturer: Murata Electronics North America; Detailed Description: 4.7µH Shielded Wirewound Inductor 4A 27.6mOhm Max Nonstandard; Type: Wirewound; Material - Core: Ferrite; Tolerance: ±20%; Shielding: Shielded; DC Resistance (DCR): 27.6mOhm Max; Inductance Frequency - Test: 100kHz; mfg P/N: 1255AY-4R7M=P3; Part Status: Active; Current - Saturation: 4.5A; Mounting Type: Surface Mount; Package / Case: Nonstandard; Size / Dimension: 0.248" L x 0.248" W (6.30mm x 6.30mm); Height - Seated (Max): 0.177" (4.50mm)
footprint Ind,Non-Stand,Murata,1255AY (Nonstandard,0.248" L x 0.248" W (6.30mm x 6.30mm))
pins: 1, 2

## Ind,Non-Stand,SMD,10uH,710mA,264mOhm,NRS3015T100MNGHV
designator L?, comment Inductance: 10µH  Current Rating (Amps): 710mA  (hidden comment: NRS3015T100MNGHV)
FIXED IND 10UH 710MA 264 MOHM; Manufacturer: Taiyo Yuden; Detailed Description: 10µH Shielded Wirewound Inductor 710mA 264mOhm Max Nonstandard; Type: Wirewound; Material - Core: Ferrite; Tolerance: ±20%; Current - Saturation: 700mA; Shielding: Shielded; DC Resistance (DCR): 264mOhm Max; Frequency - Self Resonant: 28MHz; Inductance Frequency - Test: 100kHz; mfg P/N: NRS3015T100MNGHV; Part Status: Active; Series: NR, S Type; Operating Temperature: -40°C ~ 125°C; Mounting Type: Surface Mount; Package / Case: Nonstandard; Size / Dimension: 0.118" L x 0.118" W (3.00mm x 3.00mm); Height - Seated (Max): 0.059" (1.50mm); Ratings: AEC-Q200
footprint IND,NON-Stand,SMD,Taiyo Yuden,Series - NRS Type (0.118" L x 0.118" W (3.00mm x 3.00mm))
pins: 1, 2

## IND,TH,15uH,2.4A,60mOhm,RLB0914-150KL
designator L?, comment Inductance: 15µH  Current Rating (Amps): 2.4A  (hidden comment: RLB0914-150KL)
FIXED IND 15UH 2.4A 60 MOHM TH; Manufacturer: Bourns Inc.; Detailed Description: 15µH Unshielded Wirewound Inductor 2.4A 60mOhm Max Radial, Vertical Cylinder; Type: Wirewound; Material - Core: Ferrite; Tolerance: ±10%; Current - Saturation: 5.3A; Shielding: Unshielded; DC Resistance (DCR): 60mOhm Max; Q @ Freq: 50 @ 2.52MHz; Frequency - Self Resonant: 10MHz; Inductance Frequency - Test: 2.52MHz; mfg P/N: RLB0914-150KL; Part Status: Active; Operating Temperature: -40°C ~ 105°C; Mounting Type: Through Hole; Package / Case: Radial, Vertical Cylinder; Size / Dimension: 0.343" Dia (8.70mm); Height - Seated (Max): 0.512" (13.00mm); Base Part Number: RLB0914
footprint IND,TH, Radial, Vertical Cylinder,RLB0914 (Radial inductor)
pins: 1, 2

## Ind. 0805,2.2uH,600mA,160mOhm, MLZ2012M2R2HT000
designator L?, comment MLZ2012M2R2HT000
FIXED IND 2.2UH 600MA 160 MOHM; Manufacturer: TDK Corporation; Detailed Description: 2.2µH Shielded Multilayer Inductor 600mA 208 mOhm Max 0805 (2012 Metric); Type: Multilayer; Material - Core: Ferrite; Inductance: 2.2µH; Tolerance: ±20%; Current - Saturation: 400mA; Shielding: Shielded; DC Resistance (DCR): 208 mOhm Max; Frequency - Self Resonant: 100MHz; Inductance Frequency - Test: 2MHz; mfg P/N: MLZ2012M2R2HT000; Series: MLZ; Current Rating: 600mA; Operating Temperature: -55°C ~ 125°C; Mounting Type: Surface Mount; Package / Case: 0805 (2012 Metric)
footprint Ind, 0805 (0.079" L x 0.049" W (2.00mm x 1.25mm))
pins: 1, 2

## Inductor,1040,3.9uH,10.5A,ASPIAIG-F1040-3R9M-T
designator L?, comment Inductor
FIXED IND 3.9UH 10.5A 14.5MOHM A; mfg P/N: ASPIAIG-F1040-3R9M-T; Detailed Description: 3.9µH Shielded Molded Inductor 10.5A 14.5 mOhm Max Nonstandard; Type: Molded; Inductance: 3.9µH; Tolerance: ±20%; Current - Saturation: 19A; Shielding: Shielded; DC Resistance (DCR): 14.5 mOhm Max; Inductance Frequency - Test: 100kHz; Series: ASPIAIG-F1; Current Rating: 10.5A; Ratings: AEC-Q200; Operating Temperature: -40°C ~ 125°C; Mounting Type: Surface Mount; Package / Case: Nonstandard; Supplier Device Package: 1040; Size / Dimension: 0.433" L x 0.394" W (11.00mm x 10.00mm); Height - Seated: (Max) 0.157" (4.00mm)
footprint Inductor,1040, ASPIAIG-F1040-3R9M-T
pins: 1, 2

## inductor, 0805, 2.2uH, 550mA, BRL2012T2R2M
designator L?, comment Inductor
BR Series 0805 2.2 uH ±20% Tolerance 1 A Unshielded Surface Mount Power Inductor; mfg p/n: BRL2012T2R2M; Inductance: 2.2uH; Current Rating: 550mA; Current - Saturation: 600mA; DC Resistance (DCR): 390 mOhm Max; Frequency - Self Resonant: 200Mhz; Tolerance: ±20%; Shielding: Unshielded; Package / Case: 0805 (2012 Metric); Operating Temperature: -40°C ~ 105°C
footprint Ind, 0805 (0.079" L x 0.049" W (2.00mm x 1.25mm))
pins: 1, 2

## Inductor,Torriod, Custom,6.9mm Lead Spacing
designator L?, comment Inductor
Inductance: *; Resistance: *; Leakage: *
footprint Inductor,Torridal,6.9mm Spacing (Torridal Inductor 7.55mm Spacing)
pins: 1, 2

## JFET, P-channel,SOT-23-3,20mA,30V,0.225W, J177
designator Q?
P-Channel Switch, 0.8 to 2.5 V Gate-Source Cut-Off Voltage, -55 to 150 degC, 3-Pin SOT-23, RoHS, Tape and Reel; Breakdown Voltage: 30.0 V; Continuous Drain Current (Ids): 0.01075 A; Current Rating: 0.02 A; Drain to Source Resistance (on) (Rds): 300.0 Ω; Lead-Free Status: Lead Free; Voltage Rating (DC): -30.0 V; Breakdown Voltage [Gate to Source]: 30.0 V; Case/Package: SOT-23; Drain to Source Voltage (Vds): 30.0 V; Lifecycle Status: Active; Mounting Style: Surface Mount; Number of Pins: 3; Polarity: P-Channel; Power Dissipation: 0.225 W; REACH SVHC Compliance: No SVHC; RoHS: Compliant
footprint SOT23-3
pins: 1 D, 2 S, 3 G

## JFET,P-CH,30V,20mA,MMBFJ177
designator Q1, comment MMBFJ177  (value not drawn)
P-Channel Switch, 0.8 to 2.5 V Gate-Source Cut-Off Voltage, -55 to 150 degC, 3-Pin SOT-23, RoHS, Tape and Reel; Breakdown Voltage: 30.0 V; Continuous Drain Current (Ids): 0.01075 A; Current Rating: 0.02 A; Drain to Source Resistance (on) (Rds): 300.0 Ω; Lead-Free Status: Lead Free; Power Dissipation: 0.225 W; Voltage Rating (DC): -30.0 V; Breakdown Voltage [Gate to Source]: 30.0 V; Case/Package: SOT-23; Drain to Source Voltage (Vds): 30.0 V; Lifecycle Status: Active; Mounting Style: Surface Mount; Number of Pins: 3; Octopart Url: https://octopart.com/mmbfj177-fairchild+semiconductor-340871; OctopartID: a21f6b10b4fe7dd8; Polarity: P-Channel; REACH SVHC Compliance: No SVHC; RoHS: Compliant; mfg P/N: MMBFJ177
footprint SOT23-3
pins: 1 D, 2 S, 3 G

## LCD, 16x2, ADAFRUIT 181
designator LCD?
LCD Character Display; 4x20 Char.; 98x60; STN- BLUE; Transmissive; 8-Bit Parallel; Display Type: STN - Super-Twisted Nematic; Backlight: LED - White; Voltage - Supply: 4.8 V ~ 5.2 V; Interface: Parallel, 8-Bit; Text Color: White; mfg P/N: ADAFRUIT 181; Display Format: 16 x 2; Display Mode: Transmissive; Operating Temperature: -20°C ~ 70°C; Background Color: Blue
footprint LCD Module 16x2 (Character LCD module, 20x4, White on Blue, HD44780A Controller)
pins: 1 VSS (power) "GND/VSS supply", 2 VDD (power) "+5V/VDD supply", 3 VO (power) "Contrast Control Voltage", 4 RS (in) "Register Select", 5 R/~{W} (in) "Read / Write", 6 E (in) "Enable", 7 D0 (io) "Data", 8 D1 (io) "Data", 9 D2 (io) "Data", 10 D3 (io) "Data", 11 D4 (io) "Data", 12 D5 (io) "Data", 13 D6 (io) "Data", 14 D7 (io) "Data", 15 BLA "Backlight Anode", 16 BLK "Backlight Cathode"
text: Hello LCD World

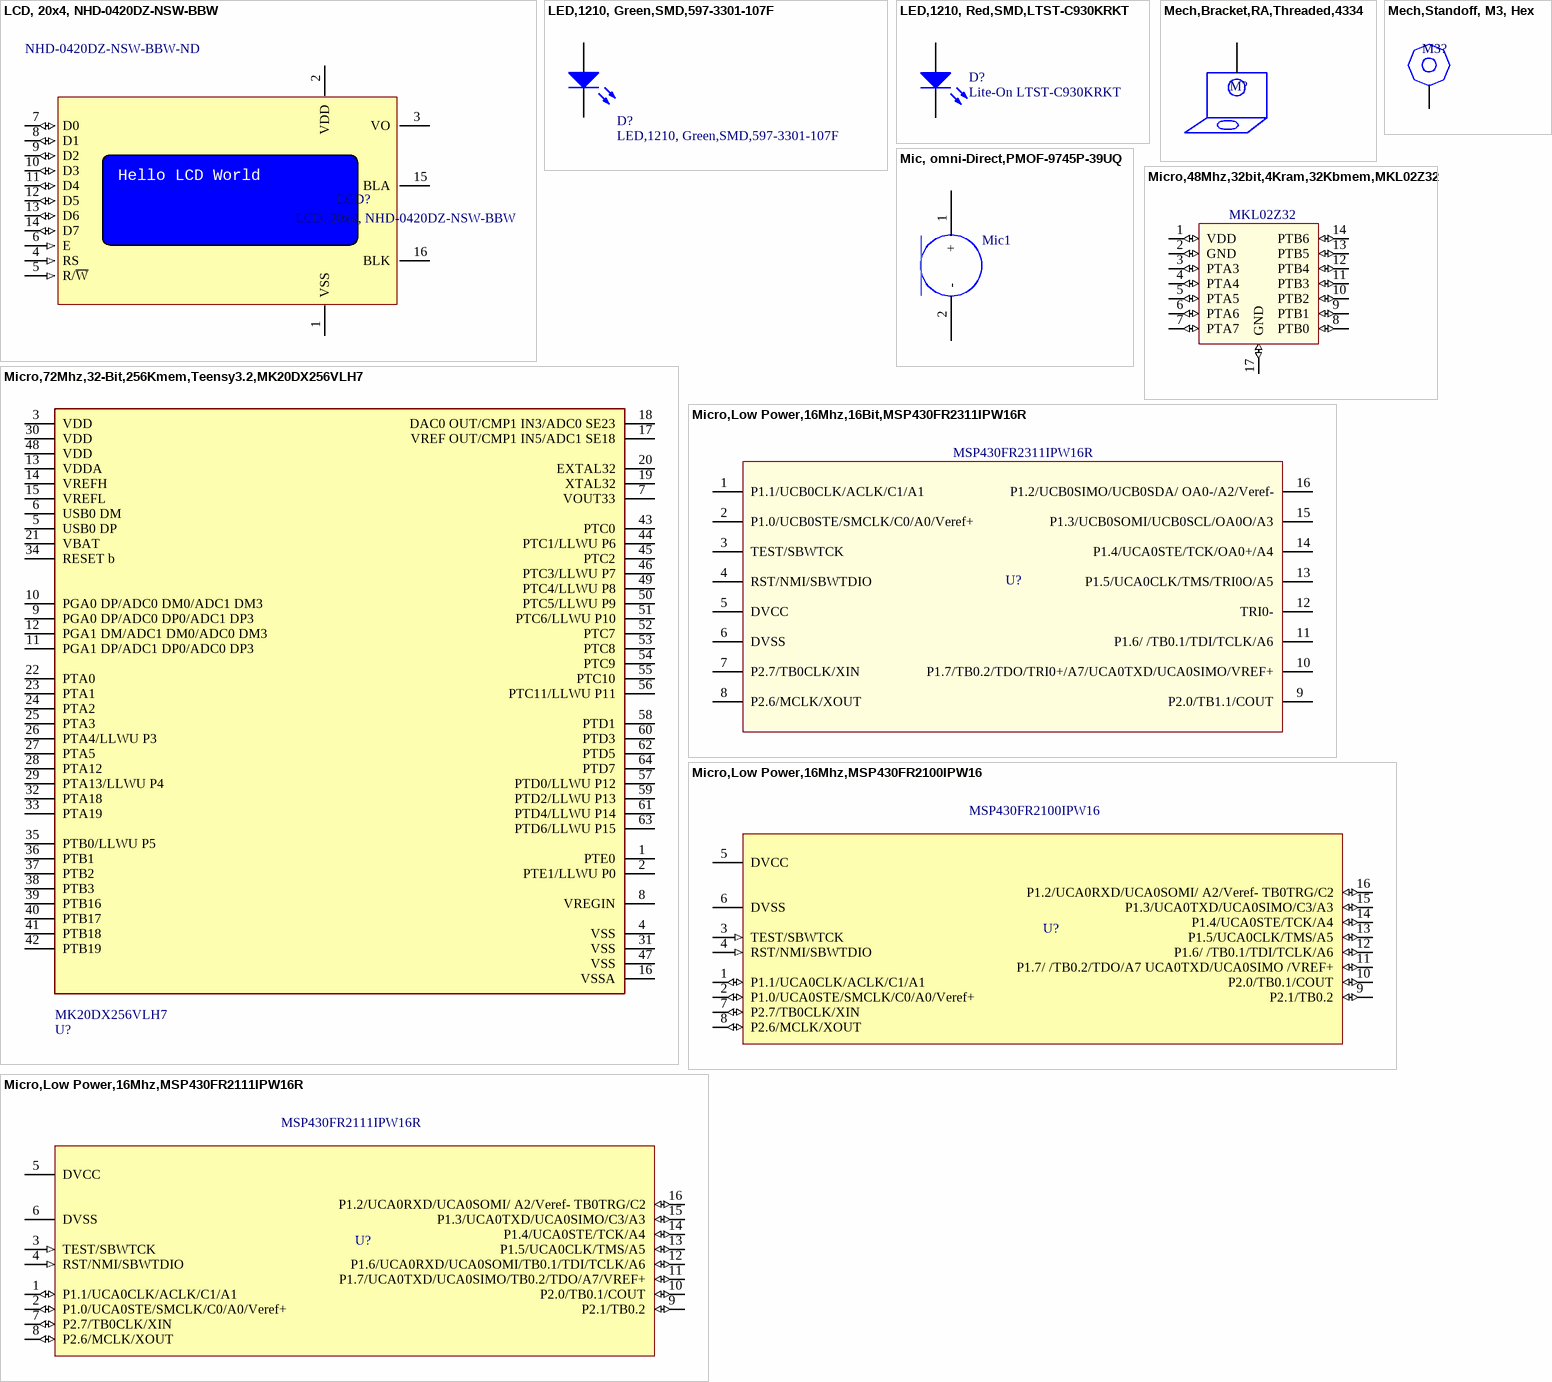
[diagram p4: symbols LCD, 20x4, NHD-0420DZ-NSW-BBW to Micro,Low Power,16Mhz,MSP430FR2111IPW16R]

## LCD, 20x4, NHD-0420DZ-NSW-BBW
designator LCD?  Supplier Part Number 1: NHD-0420DZ-NSW-BBW-ND
LCD Character Display; 4x20 Char.; 98x60; STN- BLUE; Transmissive; 8-Bit Parallel; Supplier 1: Digi-Key
footprint LCD Module 20x4 (Character LCD module, 20x4, White on Blue, HD44780A Controller)
pins: 1 VSS (power) "GND/VSS supply", 2 VDD (power) "+5V/VDD supply", 3 VO (power) "Contrast Control Voltage", 4 RS (in) "Register Select", 5 R/~{W} (in) "Read / Write", 6 E (in) "Enable", 7 D0 (io) "Data", 8 D1 (io) "Data", 9 D2 (io) "Data", 10 D3 (io) "Data", 11 D4 (io) "Data", 12 D5 (io) "Data", 13 D6 (io) "Data", 14 D7 (io) "Data", 15 BLA "Backlight Anode", 16 BLK "Backlight Cathode"
text: Hello LCD World

## LED,1210, Green,SMD,597-3301-107F
designator D?
597 Series Green 1.65 x 1.27 mm 170° 12 mcd Clear 2 V Case 1210 LED; Voltage Rating (DC): 2.00 V; Lens Type: Non-Diffused; Input Current: 20.0 mA; Wavelength: 565 nm; Color: Green; Viewing Angle: 170 °; Packaging: Cut Tape (CT); RoHS: Compliant; Manufacturer Part Number: 597-3301-107F; Size-Height: 1.02 mm; Size-Length: 3.05 mm; Forward Voltage: 2.00 V
footprint LED, 1209
pins: 1 A, 2 K

## LED,1210, Red,SMD,LTST-C930KRKT
designator D?, comment Lite-On LTST-C930KRKT
Red 3.2 x 2.4 x 2.4 mm 25° Water Clear 850 mcd 2 V Dome Surface Mount LED; Lens Type: Non-Diffused; Lead-Free Status: Lead Free; Wavelength: 639 nm; Luminous Intensity: 850 mcd; Forward Voltage: 2.00 V; Octopart URL: http://octopart.com/ltst-c930krkt-lite-on-549924; Manufacturer Part Number: LTST-C930KRKT; Size-Height: 2.40 mm; Case/Package: 1209; Size-Width: 2.40 mm; Viewing Angle: 25 °; Mounting Style: Surface Mount, Vertical; Packaging: Cut Tape (CT), Tape & Reel (TR); Size-Length: 3.20 mm; RoHS: Compliant; Color: Red; OctopartID: 94175d15d5554bd0
footprint LED, 1209
pins: 1 A, 2 K

## Mech,Bracket,RA,Threaded,4334
designator M?, comment 4334  (value not drawn)  (mechanical)
Mounting Bracket Short L #6-32 (2) Steel, Nickel Plated; Manufacturer: Keystone Electronics; Thread/Screw/Hole: Size #6-32 (2); mfg P/N: 4334; Type: Bracket, Threaded Hole(s); Material: Steel, Nickel Plated
footprint Mech,Bracket,RA,#6,Threaded (MOUNT BRACKET SHORT L 6-32 STEEL)
pins: 1

## Mech,Standoff, M3, Hex
designator M3?, comment M3 hex Standoff  (value not drawn)  (mechanical)
HEX STANDOFF M3,generic
footprint Standoff,Hex,M3,8mm
pins: 0

## Mic, omni-Direct,PMOF-9745P-39UQ
designator Mic1, comment Mallory Sonalert PMOF-9745P-39UQ  (value not drawn)
Microphones ANALOG, OMNI, -39, 9.7X4.5MM, PC PIN; Lead-Free Status: Lead Free; Octopart URL: http://octopart.com/pmof-9745p-39uq-mallory+sonalert-76807922; Manufacturer Part Number: PMOF-9745P-39UQ; RoHS: Compliant; OctopartID: e417298e3f833bd0
footprint condenser mic (MIC-9.7MM_A)
pins: 1 +, 2 -

## Micro,48Mhz,32bit,4Kram,32Kbmem,MKL02Z32
designator U?, comment MKL02Z32
IC MCU 32BIT 32KB FLASH 16QFN; Manufacturer: NXP USA Inc.; mfg P/N: MKL02Z32VFG4; Detailed Description: ARM® Cortex®-M0+ Kinetis KL02 Microcontroller IC 32-Bit 48MHz 32KB (32K x 8) FLASH 16-QFN (3x3); Core Processor: ARM® Cortex®-M0+; Core Size: 32-Bit; Speed: 48MHz; Connectivity: I²C, SPI, UART/USART; Peripherals: Brown-out Detect/Reset, LVD, POR, PWM, WDT; Number of I/O: 14; Program Memory Size: 32KB (32K x 8); RAM Size: 4K x 8; Voltage - Supply: (Vcc/Vdd) 1.71V ~ 3.6V; Data Converters: A/D 6x12b; Oscillator Type: Internal; Part Status: Active; Program Memory Type: FLASH; Operating Temperature: -40°C ~ 105°C (TA); Mounting Type: Surface Mount; Package / Case: 16-UFQFN Exposed Pad; Supplier Device Package: 16-QFN (3x3); Base Part Number: MKL02Z32
footprint QFN(3mmx3mm) (16-Lead Plastic QFN (3mm × 3mm))
pins: 1 VDD (io), 2 GND (io), 3 PTA3 (io), 4 PTA4 (io), 5 PTA5 (io), 6 PTA6 (io), 7 PTA7 (io), 8 PTB0 (io), 9 PTB1 (io), 10 PTB2 (io), 11 PTB3 (io), 12 PTB4 (io), 13 PTB5 (io), 14 PTB6 (io), 17 GND (io)

## Micro,72Mhz,32-Bit,256Kmem,Teensy3.2,MK20DX256VLH7
designator U?, comment MK20DX256VLH7  (mechanical)
ARM® Cortex®-M4 Kinetis K20 Microcontroller IC 32-Bit 72MHz 256KB (256K x 8) FLASH 64-LQFP (10x10); Manufacturer: NXP; Mfg Package Ident: 98ASS23234W; Num Pins: 64; helpURL: https://upverter.com/upn/revision/d59cf571ff38987f/; ComponentLink2Description: Datasheet; Temperature: to; Package: 98ASS23234W; Supplier 2: Mouser; Price: 4.78551472277; Supplier 1: Digi-Key; ComponentLink1URL: https://upverter.com/upn/revision/d59cf571ff38987f/; Supplier Part Number 1: MK20DX256VLH7-ND; ComponentLink1Description: Upverter; ComponentLink2URL: https://upverter.com/datasheet/d91d65acd7565183b37d3c2bff3b29ae5d5c43ff.pdf; RoHS: TRUE; Lead Free: yes; mfg P/N: MK20DX256VLH7
footprint 64-LQFP (64-LQFP (10x10))
pins: 1 PTE0, 2 PTE1/LLWU P0, 3 VDD, 4 VSS, 5 USB0 DP, 6 USB0 DM, 7 VOUT33, 8 VREGIN, 9 PGA0 DP/ADC0 DP0/ADC1 DP3, 10 PGA0 DP/ADC0 DM0/ADC1 DM3, 11 PGA1 DP/ADC1 DP0/ADC0 DP3, 12 PGA1 DM/ADC1 DM0/ADC0 DM3, 13 VDDA, 14 VREFH, 15 VREFL, 16 VSSA, 17 VREF OUT/CMP1 IN5/ADC1 SE18, 18 DAC0 OUT/CMP1 IN3/ADC0 SE23, 19 XTAL32, 20 EXTAL32, 21 VBAT, 22 PTA0, 23 PTA1, 24 PTA2, 25 PTA3, 26 PTA4/LLWU P3, 27 PTA5, 28 PTA12, 29 PTA13/LLWU P4, 30 VDD, 31 VSS, 32 PTA18, 33 PTA19, 34 RESET b, 35 PTB0/LLWU P5, 36 PTB1, 37 PTB2, 38 PTB3, 39 PTB16, 40 PTB17, 41 PTB18, 42 PTB19, 43 PTC0, 44 PTC1/LLWU P6, 45 PTC2, 46 PTC3/LLWU P7, 47 VSS, 48 VDD, 49 PTC4/LLWU P8, 50 PTC5/LLWU P9, 51 PTC6/LLWU P10, 52 PTC7, 53 PTC8, 54 PTC9, 55 PTC10, 56 PTC11/LLWU P11, 57 PTD0/LLWU P12, 58 PTD1, 59 PTD2/LLWU P13, 60 PTD3, 61 PTD4/LLWU P14, 62 PTD5, 63 PTD6/LLWU P15, 64 PTD7

## Micro,Low Power,16Mhz,16Bit,MSP430FR2311IPW16R
designator U?, comment MSP430FR2311IPW16R
IC MCU 16BIT 3.75KB FRAM 16TSSOP; Manufacturer: Texas Instruments; Detailed Description: MSP430 MSP430™ FRAM Microcontroller IC 16-Bit 16MHz 3.75KB (3.75K x 8) FRAM 16-TSSOP; Categories: Integrated Circuits (ICs)   Embedded - Microcontrollers; Core Processor: MSP430; Core Size: 16-Bit; Speed: 16MHz; Connectivity: I²C, IrDA, SCI, SPI, UART/USART; Peripherals: Brown-out Detect/Reset, POR, PWM, WDT; Number of I/O: 11; Program Memory Size: 3.75KB (3.75K x 8); RAM Size: 1K x 8; Voltage - Supply: (Vcc/Vdd) 1.8V ~ 3.6V; Data Converters: A/D 8x10b; Oscillator Type: Internal; Timers: 2; Series: MSP430™ FRAM; Part Status: Active; Program Memory Type: FRAM; Operating Temperature: -40°C ~ 85°C (TA); Mounting Type: Surface Mount; Package / Case: 16-TSSOP  (0.173", 4.40mm Width); Supplier Device Package: 16-TSSOP; mfg P/N: MSP430FR2311IPW16R
footprint TSSOP-16 (TSOP, 16-Leads, Body 5x4.4mm, Pitch 0.65mm, IPC High Density)
pins: 1 P1.1/UCB0CLK/ACLK/C1/A1, 2 P1.0/UCB0STE/SMCLK/C0/A0/Veref+, 3 TEST/SBWTCK, 4 RST/NMI/SBWTDIO, 5 DVCC, 6 DVSS, 7 P2.7/TB0CLK/XIN, 8 P2.6/MCLK/XOUT, 9 P2.0/TB1.1/COUT, 10 P1.7/TB0.2/TDO/TRI0+/A7/UCA0TXD/UCA0SIMO/VREF+, 11 P1.6/ /TB0.1/TDI/TCLK/A6, 12 TRI0-, 13 P1.5/UCA0CLK/TMS/TRI0O/A5, 14 P1.4/UCA0STE/TCK/OA0+/A4, 15 P1.3/UCB0SOMI/UCB0SCL/OA0O/A3, 16 P1.2/UCB0SIMO/UCB0SDA/ OA0-/A2/Veref-

## Micro,Low Power,16Mhz,MSP430FR2100IPW16
designator U?, comment Manufacturer Part Number: MSP430FR2100IPW16  (hidden comment: Texas Instruments MSP430FR2100IPW16)
16 MHz Ultra-Low-Power Microcontroller With 1 KB FRAM, 0.5 KB SRAM, 12 IO, 8 ch 10-bit ADC 16-TSSOP -40 to 85; RAM Memory Size: 512 B; Number of UARTs: 1; Frequency: 16.0 MHz; Number of Bits: 16; OctopartID: 8d704177798652b7; Lifecycle Status: Active; RoHS: Compliant; Octopart URL: http://octopart.com/msp430fr2100ipw16-texas+instruments-84791696; Clock Speed: 16.0 MHz; Case/Package: TSSOP; timers: 1
footprint TSSOP-16 (TSOP, 16-Leads, Body 5x4.4mm, Pitch 0.65mm, IPC High Density)
pins: 1 P1.1/UCA0CLK/ACLK/C1/A1 (io) "Selects test mode for JTAG pins on Port1. The device protection fuse is connected to TEST.", 2 P1.0/UCA0STE/SMCLK/C0/A0/Veref+ (io) "Supply voltage", 3 TEST/SBWTCK (in), 4 RST/NMI/SBWTDIO (in) "Ground reference", 5 DVCC (power), 6 DVSS (power), 7 P2.7/TB0CLK/XIN (io), 8 P2.6/MCLK/XOUT (io), 9 P2.1/TB0.2 (io), 10 P2.0/TB0.1/COUT (io), 11 P1.7/ /TB0.2/TDO/A7 UCA0TXD/UCA0SIMO /VREF+ (io), 12 P1.6/ /TB0.1/TDI/TCLK/A6 (io), 13 P1.5/UCA0CLK/TMS/A5 (io), 14 P1.4/UCA0STE/TCK/A4 (io), 15 P1.3/UCA0TXD/UCA0SIMO/C3/A3 (io), 16 P1.2/UCA0RXD/UCA0SOMI/ A2/Veref- TB0TRG/C2 (io)

## Micro,Low Power,16Mhz,MSP430FR2111IPW16R
designator U?, comment Manufacturer Part Number: MSP430FR2111IPW16R  (hidden comment: Texas Instruments MSP430FR2111IPW16R)
16 MHz Ultra-Low-Power Microcontroller With 1 KB FRAM, 0.5 KB SRAM, 12 IO, 8 ch 10-bit ADC 16-TSSOP -40 to 85; RAM Memory Size: 512 B; Number of UARTs: 1; Frequency: 16.0 MHz; Number of Bits: 16; Core Processor: MSP430; Connectivity: I²C, SCI, SPI, UART/USART; Peripherals: Brown-out Detect/Reset, POR, PWM, WDT; Number of I/O: 12; Program Memory Size: 3.75KB (3.75K x 8); RAM Size: 1K x 8; Voltage - Supply (Vcc/Vdd): 1.8V ~ 3.6V; Data Converters: A/D 8x10b; Oscillator Type: Internal; Lifecycle Status: Active; RoHS: Compliant; Octopart URL: http://octopart.com/msp430fr2100ipw16-texas+instruments-84791696; Clock Speed: 16.0 MHz; Supplier Device Package: 16-TSSOP; Manufacturer: Texas Instruments; Part Status: Active; Program Memory Type: FRAM; Operating Temperature: -40°C ~ 85°C (TA); Mounting Type: Surface Mount; Package / Case: 16-TSSOP (0.173", 4.40mm Width); Timers: 1
footprint TSSOP-16 (TSOP, 16-Leads, Body 5x4.4mm, Pitch 0.65mm, IPC High Density)
pins: 1 P1.1/UCA0CLK/ACLK/C1/A1 (io) "Selects test mode for JTAG pins on Port1. The device protection fuse is connected to TEST.", 2 P1.0/UCA0STE/SMCLK/C0/A0/Veref+ (io) "Supply voltage", 3 TEST/SBWTCK (in), 4 RST/NMI/SBWTDIO (in) "Ground reference", 5 DVCC (power), 6 DVSS (power), 7 P2.7/TB0CLK/XIN (io), 8 P2.6/MCLK/XOUT (io), 9 P2.1/TB0.2 (io), 10 P2.0/TB0.1/COUT (io), 11 P1.7/UCA0TXD/UCA0SIMO/TB0.2/TDO/A7/VREF+ (io), 12 P1.6/UCA0RXD/UCA0SOMI/TB0.1/TDI/TCLK/A6 (io), 13 P1.5/UCA0CLK/TMS/A5 (io), 14 P1.4/UCA0STE/TCK/A4 (io), 15 P1.3/UCA0TXD/UCA0SIMO/C3/A3 (io), 16 P1.2/UCA0RXD/UCA0SOMI/ A2/Veref- TB0TRG/C2 (io)

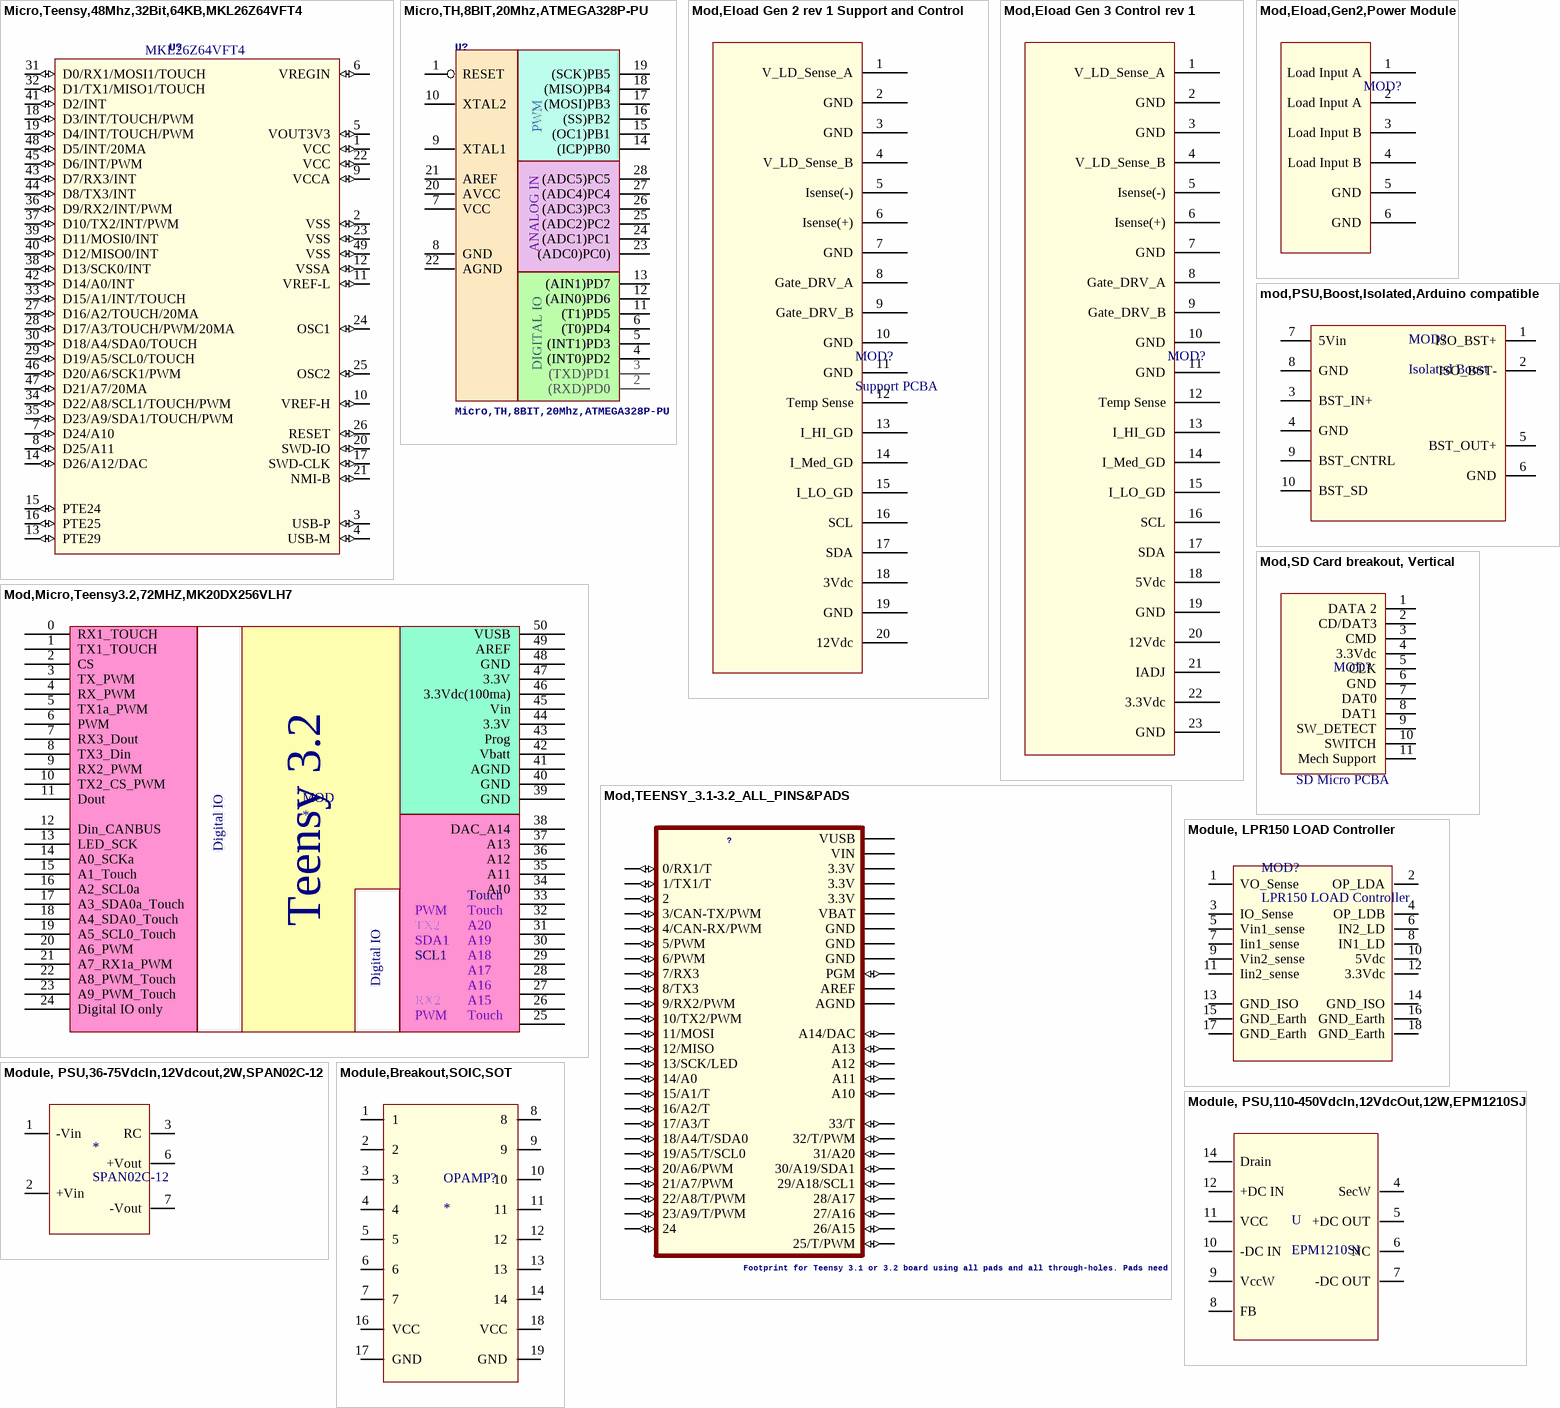
[diagram p5: symbols Micro,Teensy,48Mhz,32Bit,64KB,MKL26Z64VFT4 to Module,Breakout,SOIC,SOT]

## Micro,Teensy,48Mhz,32Bit,64KB,MKL26Z64VFT4
designator U?, comment MKL26Z64VFT4
IC MCU 32BIT 64KB FLASH 48QFN; Manufacturer: NXP USA Inc.; Detailed Description: ARM® Cortex®-M0+ Kinetis KL2 Microcontroller IC 32-Bit 48MHz 64KB (64K x 8) FLASH 48-QFN (7x7); Categories: Integrated Circuits (ICs)   Embedded - Microcontrollers; Core Processor: ARM® Cortex®-M0+; Core Size: 32-Bit; Speed: 48MHz; Connectivity: I²C, LINbus, SPI, UART/USART, USB, USB OTG; Peripherals: Brown-out Detect/Reset, DMA, I²S, LVD, POR, PWM, WDT; Number of I/O: 36; Program Memory: Size 64KB (64K x 8); Program Memory: Type FLASH; RAM Size: 8K x 8; Voltage - Supply (Vcc/Vdd): 1.71V ~ 3.6V; Data Converters: A/D - 16bit; D/A - 12bit; Oscillator Type: Internal; LibraryName: Teensy_DIY_v1.0; Part Status: Active; Operating Temperature: -40°C ~ 105°C (TA); Mounting Type: Surface Mount; Package / Case: 48-VFQFN Exposed Pad; Supplier Device Package: 48-QFN (7x7); Base Part Number: MKL26Z64; mfg P/N: MKL26Z64VFT4
footprint 48-VFQFN Exposed Pad
pins: 1 VCC (io), 2 VSS (io), 3 USB-P (io), 4 USB-M (io), 5 VOUT3V3 (io), 6 VREGIN (io), 7 D24/A10 (io), 8 D25/A11 (io), 9 VCCA (io), 10 VREF-H (io), 11 VREF-L (io), 12 VSSA (io), 13 PTE29 (io), 14 D26/A12/DAC (io), 15 PTE24 (io), 16 PTE25 (io), 17 SWD-CLK (io), 18 D3/INT/TOUCH/PWM (io), 19 D4/INT/TOUCH/PWM (io), 20 SWD-IO (io), 21 NMI-B (io), 22 VCC (io), 23 VSS (io), 24 OSC1 (io), 25 OSC2 (io), 26 RESET (io), 27 D16/A2/TOUCH/20MA (io), 28 D17/A3/TOUCH/PWM/20MA (io), 29 D19/A5/SCL0/TOUCH (io), 30 D18/A4/SDA0/TOUCH (io), 31 D0/RX1/MOSI1/TOUCH (io), 32 D1/TX1/MISO1/TOUCH (io), 33 D15/A1/INT/TOUCH (io), 34 D22/A8/SCL1/TOUCH/PWM (io), 35 D23/A9/SDA1/TOUCH/PWM (io), 36 D9/RX2/INT/PWM (io), 37 D10/TX2/INT/PWM (io), 38 D13/SCK0/INT (io), 39 D11/MOSI0/INT (io), 40 D12/MISO0/INT (io), 41 D2/INT (io), 42 D14/A0/INT (io), 43 D7/RX3/INT (io), 44 D8/TX3/INT (io), 45 D6/INT/PWM (io), 46 D20/A6/SCK1/PWM (io), 47 D21/A7/20MA (io), 48 D5/INT/20MA (io), 49 VSS (io)

## Micro,TH,8BIT,20Mhz,ATMEGA328P-PU
designator U?
MICROCONTROLLER   4 Kbytes FLASH   128 bytes SRAM   256 bytes EEPROM   UART   6-channel 10 bit ADC; Manufacturer: Microchip Technology; mfg P\N: ATMEGA328-PU; Core Processor: AVR; Core Size: 8-Bit; Connectivity: I²C, SPI, UART/USART; Peripherals: Brown-out Detect/Reset, POR, PWM, WDT; Number of I/O: 23; Program Memory Size: 32KB (16K x 16); EEPROM Size: 1K x 8; RAM Size: 2K x 8; Voltage - Supply (Vcc/Vdd): 1.8 V ~ 5.5 V; Data Converters: A/D 6x10b; Oscillator Type: Internal; Speed: 20MHz; Program Memory Type: FLASH; Operating Temperature: -40°C ~ 85°C (TA); Package / Case: 28-DIP (0.300", 7.62mm); Supplier Device Package: 28-PDIP; Base Part Number: ATMEGA328
footprint DIP28 with socket (PDIP28)
footprint DIP28 (PDIP28)
pins: 1 RESET, 2 (RXD)PD0, 3 (TXD)PD1, 4 (INT0)PD2, 5 (INT1)PD3, 6 (T0)PD4, 7 VCC (power), 8 GND (power), 9 XTAL1, 10 XTAL2, 11 (T1)PD5, 12 (AIN0)PD6, 13 (AIN1)PD7, 14 (ICP)PB0, 15 (OC1)PB1, 16 (SS)PB2, 17 (MOSI)PB3, 18 (MISO)PB4, 19 (SCK)PB5, 20 AVCC (power), 21 AREF, 22 AGND (power), 23 (ADC0)PC0), 24 (ADC1)PC1, 25 (ADC2)PC2, 26 (ADC3)PC3, 27 (ADC4)PC4, 28 (ADC5)PC5
text: PWM; ANALOG IN; DIGITAL IO

## Mod,Eload Gen 2 rev 1 Support and Control
designator MOD?, comment Support PCBA
Eload Gen 2 Support PCBA
footprint Mod,ELoad Gen 2 Rev 1 Support (ELoad Gen 2 Rev 1 Support and controls)
pins: 1 V_LD_Sense_A, 2 GND, 3 GND, 4 V_LD_Sense_B, 5 Isense(-), 6 Isense(+), 7 GND, 8 Gate_DRV_A, 9 Gate_DRV_B, 10 GND, 11 GND, 12 Temp Sense, 13 I_HI_GD, 14 I_Med_GD, 15 I_LO_GD, 16 SCL, 17 SDA, 18 3Vdc, 19 GND, 20 12Vdc

## Mod,Eload Gen 3 Control rev 1
designator MOD?, comment Support PCBA  (value not drawn)
Mod,Eload Gen 3 Control rev 1
footprint Mod,ELoad Gen 3 Rev 1 Support (ELoad Gen 2 Rev 1 Support and controls)
pins: 1 V_LD_Sense_A, 2 GND, 3 GND, 4 V_LD_Sense_B, 5 Isense(-), 6 Isense(+), 7 GND, 8 Gate_DRV_A, 9 Gate_DRV_B, 10 GND, 11 GND, 12 Temp Sense, 13 I_HI_GD, 14 I_Med_GD, 15 I_LO_GD, 16 SCL, 17 SDA, 18 5Vdc, 19 GND, 20 12Vdc, 21 IADJ, 22 3.3Vdc, 23 GND